# Altium schematic symbol library XG_DW_POCT_2K10LED_3.SCHLIB: 219 symbols (part 2 of 2)
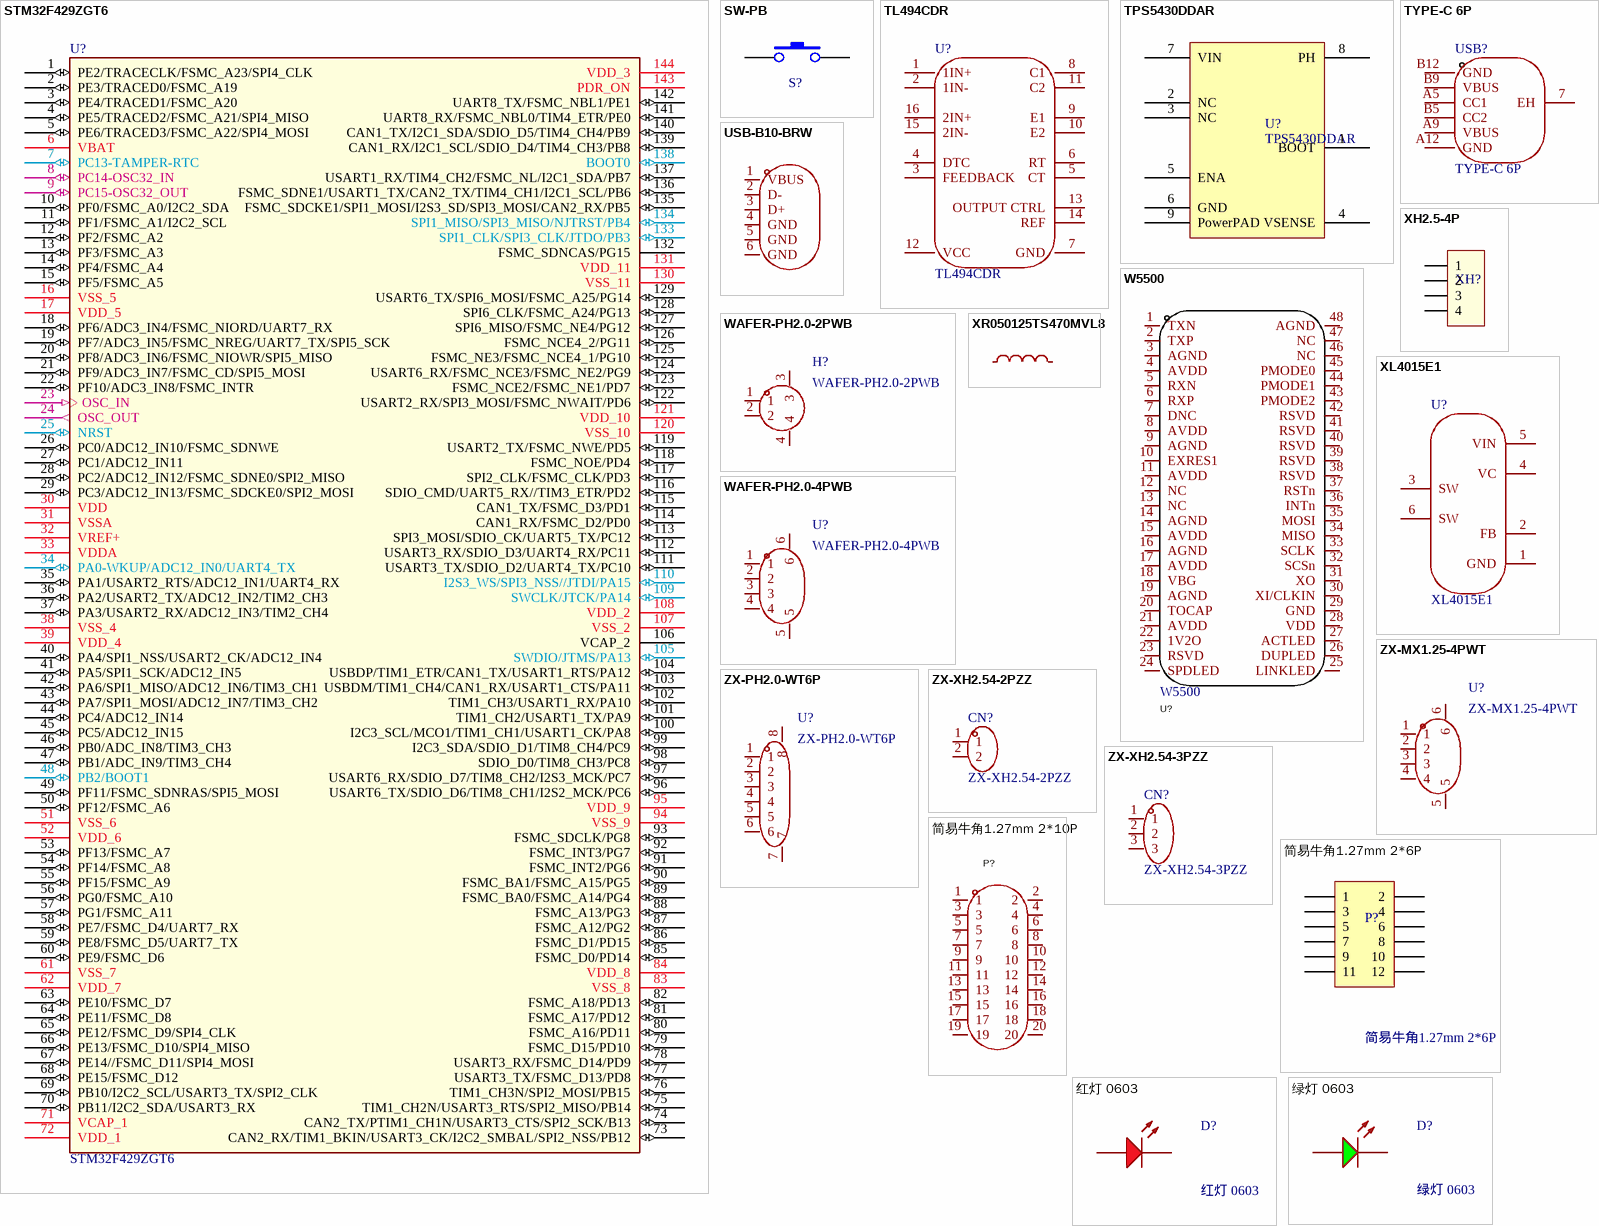
[diagram p7: symbols STM32F429ZGT6 to 绿灯 0603]

## ZX-MX1.25-4PWT
designator U?
Manufacturer: Megastar(兆星); Add into BOM: yes; Pins Structure: 1x4P; Pitch: 1.25mm; Reference Series: PicoBlade(MX 1.25); Number of PINs Per Row: 4; Supplementary Features: 辅助焊脚; Z-Height of the Board: 3.6mm; X-Length of Bottom Edge on Board (Spacing Line): 10mm; Y-Width of Bottom Edge on Board: 5.25mm; Symbol: ZX-MX1.25-4PWT; Device: ZX-MX1.25-4PWT; LCSC Part Name: 1x4P 间距:1.25mm 卧贴 系列:PicoBlade(MX 1.25) 配套胶壳型号：ZX-MX1.25-4PJK 配套端子型号：ZX-MX1.25-DZ 配套杜邦线型号：ZX-MX1.25-4PBXC; Supplier Part: C7430470; Manufacturer Part: ZX-MX1.25-4PWT; Supplier Footprint: SMD,P=1.25mm,卧贴; JLCPCB Part Class: Extended Part; Datasheet: https://atta.szlcsc.com/upload/public/pdf/source/20230619/568E7DE8E71AB8D5E62B450F32774D0B.pdf; Supplier: LCSC; Convert to PCB: yes; Mounting Style: 卧贴; Number of Pins: 4P; Number of Rows: 1; Row Spacing: -; Current Rating (Max): -; Contact Material: 黄铜; Contact Plating: 锡; Operating Temperature Range: -; Rated Voltage (Max): -; Plastic Material: -; Flame Retardant Rating: -; Colour: 米色
footprint CONN-SMD_4P-P1.25-MX1.25-4P-WT
3D model CONN-SMD_4P-P1.25-MX1.25-4P-WT
pins: 1, 2, 3, 4, 5, 6

## ZX-PH2.0-WT6P
designator U?
Manufacturer: Megastar(兆星); Add into BOM: yes; Pins Structure: 1x6P; Pitch: 2mm; Reference Series: PH; Number of PINs Per Row: 6; Supplementary Features: 辅助焊脚; Z-Height of the Board: 5.6mm; X-Length of Bottom Edge on Board (Spacing Line): 16mm; Y-Width of Bottom Edge on Board: 8.5mm; Symbol: ZX-PH2.0-WT6P; Device: ZX-PH2.0-WT6P; LCSC Part Name: 1x6P 间距:2mm 卧贴 系列:PH 配套胶壳型号：ZX-PH2.0-6PJK 配套端子型号：ZX-PH2.0-DZ 配套杜邦线型号：ZX-PH2.0-6PBXC; Supplier Part: C7429693; Manufacturer Part: ZX-PH2.0-WT6P; Supplier Footprint: SMD,P=2mm,卧贴; JLCPCB Part Class: 扩展库; Datasheet: https://atta.szlcsc.com/upload/public/pdf/source/20230619/91235C4686D19130EBBA01431FCA1390.pdf; Supplier: LCSC; Convert to PCB: yes; Mounting Style: 卧贴; Number of Pins: 6P; Number of Rows: 1; Row Spacing: -; Current Rating (Max): -; Contact Material: 黄铜; Contact Plating: 锡; Operating Temperature Range: -; Rated Voltage (Max): -; Plastic Material: -; Flame Retardant Rating: -; Colour: 米色
footprint CONN-SMD_6P-P2.00_ZX-PH2.0-WT6P
3D model CONN-SMD_6P-P2.00_ZX-PH2.0-WT6P
pins: 1, 2, 3, 4, 5, 6, 7, 8

## ZX-XH2.54-2PZZ
designator CN?
Manufacturer: Megastar(兆星); Add into BOM: yes; Pins Structure: 1x2P; Pitch: 2.5mm; Reference Series: XH; Number of PINs Per Row: 2; Rated Current: 3A; Rated Voltage (Max): 250V; Plastic Material: PA66; Flame Retardant Rating: UL94V-0; Z-Height of the Board: 7mm; X-Length of Bottom Edge on Board (Spacing Line): 7.5mm; Y-Width of Bottom Edge on Board: 5.9mm; Symbol: ZX-XH2.54-2PZZ; Device: ZX-XH2.54-2PZZ; LCSC Part Name: 1x2P 间距:2.5mm 直插 系列:XH; Supplier Part: C7429632; Manufacturer Part: ZX-XH2.54-2PZZ; Supplier Footprint: 插件,P=2.5mm; JLCPCB Part Class: 扩展库; Datasheet: https://atta.szlcsc.com/upload/public/pdf/source/20230619/19BA6947230AA44A04D3EDD65E618FD0.pdf; Supplier: LCSC; Convert to PCB: yes; Mounting Type: 直插; Number of Pins: 2P; Number of Rows: 1; Row Spacing: -; Contact Material: 黄铜; Contact Plating: 锡; Operating Temperature: -25℃~+85℃; Supplementary Features: -; Color: 白色
footprint CONN-TH_2P-P2.50_HX25003-2A
3D model CONN-TH_2P-P2.50_HX25003-2A
pins: 1, 2

## ZX-XH2.54-3PZZ
designator CN?
Manufacturer: Megastar(兆星); Add into BOM: yes; Pins Structure: 1x3P; Pitch: 2.5mm; Reference Series: XH; Number of PINs Per Row: 3; Rated Current: 3A; Rated Voltage (Max): 250V; Plastic Material: PA66; Flame Retardant Rating: UL94V-0; Z-Height of the Board: 7mm; X-Length of Bottom Edge on Board (Spacing Line): 10mm; Y-Width of Bottom Edge on Board: 5.9mm; Symbol: ZX-XH2.54-3PZZ; Device: ZX-XH2.54-3PZZ; LCSC Part Name: 1x3P 间距:2.5mm 直插 系列:XH; Supplier Part: C7429633; Manufacturer Part: ZX-XH2.54-3PZZ; Supplier Footprint: 插件,P=2.5mm; JLCPCB Part Class: Extended Part; Datasheet: https://atta.szlcsc.com/upload/public/pdf/source/20230619/AE17037A2CFDBE8D9CBA775D61AD0A84.pdf; Supplier: LCSC; Convert to PCB: yes; Mounting Type: 直插; Number of Pins: 3P; Number of Rows: 1; Row Spacing: -; Contact Material: 黄铜; Contact Plating: 锡; Operating Temperature: -25℃~+85℃; Supplementary Features: -; Color: 白色
footprint CONN-TH_3P-P2.54_2501S-3P
3D model CONN-TH_3P-P2.54_2501S-3P
pins: 1, 2, 3

## 简易牛角1.27mm 2*6P
designator P?
Header, 6-Pin, Dual row
signal-integrity model Connector
footprint 简易牛角1.27mm 2*6P
pins: 1, 2, 3, 4, 5, 6, 7, 8, 9, 10, 11, 12

## 简易牛角1.27mm 2*10P
designator P?, comment 3130-20MG0BK00R1  (value not drawn)
footprint IDC-SMD_3130-20MG0BK00R1
pins: 1, 2, 3, 4, 5, 6, 7, 8, 9, 10, 11, 12, 13, 14, 15, 16, 17, 18, 19, 20

## 红灯 0603
designator D?
发光二极管; ComponentLink1Description: 供应商链接; ComponentLink1URL: http://www.szlcsc.com/product/details_2659.html
footprint LED_0603
pins: A, K

## 绿灯 0603
designator D?
发光二极管; ComponentLink1Description: 供应商链接; ComponentLink1URL: http://www.szlcsc.com/product/details_73152.html
footprint LED_0603
pins: A, K